# EAGLE library part TSW-S-06_S (library con-samtec-tsw)
HEADER
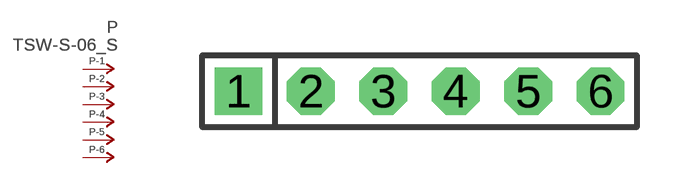
[diagram p45: symbol with the pads of TSW-S-06; footprint TSW-S-06]

Designator prefix P; gates -1=P-NV -2=P-N -3=P-N -4=P-N -5=P-N -6=P-N

## TSW-S-06_S  [TSW-S-06]
1  -1:P  pas
2  -2:P  pas
3  -3:P  pas
4  -4:P  pas
5  -5:P  pas
6  -6:P  pas

## Footprint TSW-S-06 (pad centres in mm)
HEADER
drill 0.914 pad 1.676 square: 1 -6.35,0
drill 0.914 pad 1.676 octagon: 2 -3.81,0; 3 -1.27,0; 4 1.27,0; 5 3.81,0; 6 6.35,0